# Altium footprint library SOIC-16-WIDE.PcbLib: 1 footprints
Each footprint in its own frame and in the unit in brackets; x right, y up, seen from the top. Pads: shape width x height; smd on the part's side, far side on the other; paste and mask are expansions set on the pad; w line width, h text height; cw(c..) or ccw(c..) is an arc to the next point about the centre after c.
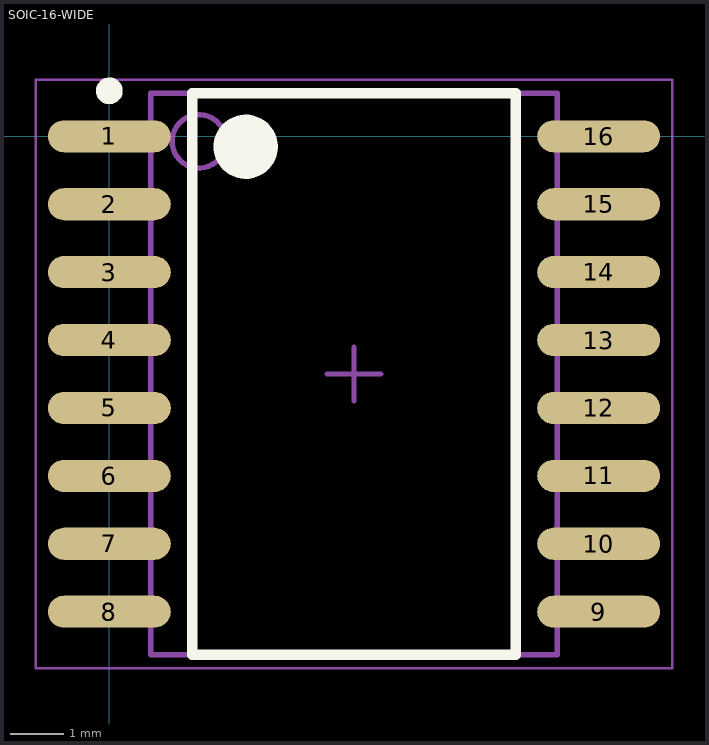
[diagram p0: the footprint, top view; thin cyan lines are the x and y axes]

## SOIC-16-WIDE [mm] "SOIC, 16-Leads, Body 10.3x7.5mm, Pitch 1.27mm, IPC Medium Density"
height 2.65
pads (16):
  oval 2.3x0.6 smd: 1(0,-0.005) 2(0,-1.275) 3(0,-2.545) 4(0,-3.815) 5(0,-5.085) 6(0,-6.355) 7(0,-7.625) 8(0,-8.895) 9(9.15,-8.895) 10(9.15,-7.625) 11(9.15,-6.355) 12(9.15,-5.085) 13(9.15,-3.815) 14(9.15,-2.545) 15(9.15,-1.275) 16(9.15,-0.005)
Top Overlay:
  circle w0.25: c0,0.845 r0.125
  circle w0.6: c2.55,-0.2 r0.3
  lines w0.2: 1.55,-9.7 1.55,0.8 7.6,0.8 7.6,-9.7 1.55,-9.7
Mechanical 13:
  circle w0.1: c1.675,-0.1 r0.5
  lines w0.1: 0.775,-9.7 0.775,0.8 8.375,0.8 8.375,-9.7 0.775,-9.7
Mechanical 15:
  lines w0.05: -1.375,-9.95 -1.375,1.05 10.525,1.05 10.525,-9.95 -1.375,-9.95
  lines w0.1: 4.075,-4.45 5.075,-4.45 ; 4.575,-4.95 4.575,-3.95
  text "'.Designator'" at 5.409,-9.05 h2
3D body: height 2.03, standoff -12.78, extent 3,-3.9 3,-3.9
3D body "SOIC-16_Wide.step": height 2.65, standoff 0, extent -0.667,-9.625 9.818,0.725